# EAGLE library part MSX_SLOT (library msx_slot)
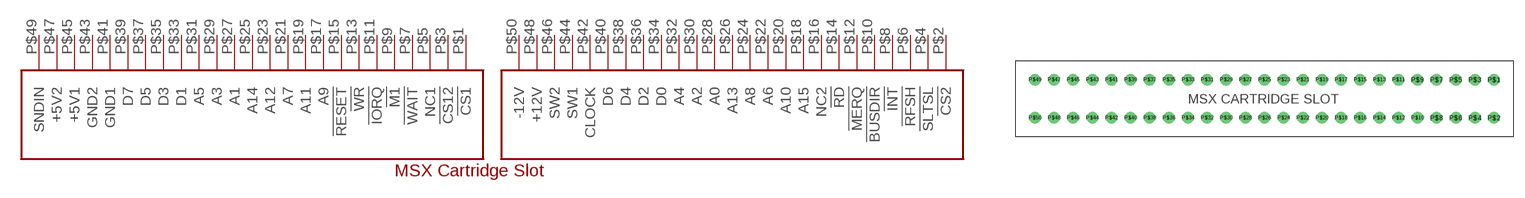
[diagram p0: symbol with the pads of MSX_SLOT; footprint MSX_SLOT]

Designator prefix CN

## MSX_SLOT  [MSX_SLOT]
P$1  !CS1  out
P$2  !CS2  out
P$3  !CS12  out
P$4  !SLTSL  out
P$5  NC1  nc
P$6  !RFSH  out
P$7  !WAIT  in
P$8  !INT  in
P$9  !M1  out
P$10  !BUSDIR  in
P$11  !IORQ  out
P$12  !MERQ  out
P$13  !WR  out
P$14  !RD  out
P$15  !RESET  out
P$16  NC2  nc
P$17  A9  out
P$18  A15  out
P$19  A11  out
P$20  A10  out
P$21  A7  out
P$22  A6  out
P$23  A12  out
P$24  A8  out
P$25  A14  out
P$26  A13  out
P$27  A1  out
P$28  A0  out
P$29  A3  out
P$30  A2  out
P$31  A5  out
P$32  A4  out
P$33  D1
P$34  D0
P$35  D3
P$36  D2
P$37  D5
P$38  D4
P$39  D7
P$40  D6
P$41  GND1  sup
P$42  CLOCK  out
P$43  GND2  sup
P$44  SW1  pas
P$45  +5V1  sup
P$46  SW2  pas
P$47  +5V2  sup
P$48  +12V  sup
P$49  SNDIN  in
P$50  -12V  sup

## Footprint MSX_SLOT (pad centres in mm)
drill 1.016: P$1 63.5,7.62; P$2 63.5,2.54; P$3 60.96,7.62; P$4 60.96,2.54; P$5 58.42,7.62; P$6 58.42,2.54; P$7 55.88,7.62; P$8 55.88,2.54; P$9 53.34,7.62; P$10 53.34,2.54; P$11 50.8,7.62; P$12 50.8,2.54; P$13 48.26,7.62; P$14 48.26,2.54; P$15 45.72,7.62; P$16 45.72,2.54; P$17 43.18,7.62; P$18 43.18,2.54; P$19 40.64,7.62; P$20 40.64,2.54; P$21 38.1,7.62; P$22 38.1,2.54; P$23 35.56,7.62; P$24 35.56,2.54; P$25 33.02,7.62; P$26 33.02,2.54; P$27 30.48,7.62; P$28 30.48,2.54; P$29 27.94,7.62; P$30 27.94,2.54; P$31 25.4,7.62; P$32 25.4,2.54; P$33 22.86,7.62; P$34 22.86,2.54; P$35 20.32,7.62; P$36 20.32,2.54; P$37 17.78,7.62; P$38 17.78,2.54; P$39 15.24,7.62; P$40 15.24,2.54; P$41 12.7,7.62; P$42 12.7,2.54; P$43 10.16,7.62; P$44 10.16,2.54; P$45 7.62,7.62; P$46 7.62,2.54; P$47 5.08,7.62; P$48 5.08,2.54; P$49 2.54,7.62; P$50 2.54,2.54